# Altium schematic symbol library IC_Si3201.SchLib: 1 symbol
Pins are listed as number, name and electrical type; pins without a type are passive.

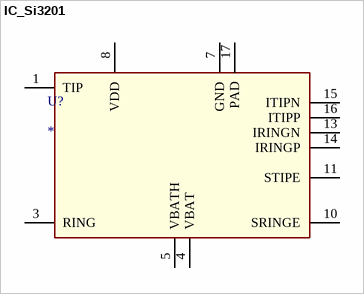
[diagram p0: symbol IC_Si3201]

## IC_Si3201
designator U?
pins: 1 TIP, 3 RING, 4 VBAT, 5 VBATH, 7 GND, 8 VDD, 10 SRINGE, 11 STIPE, 13 IRINGN, 14 IRINGP, 15 ITIPN, 16 ITIPP, 17 PAD